# Altium schematic symbol library PAM2306AYPKE.Schlib: 1 symbol
Pins are listed as number, name and electrical type; pins without a type are passive.

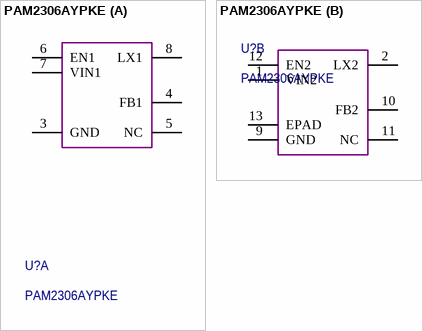
[diagram p0: symbol PAM2306AYPKE]

## PAM2306AYPKE
designator U?
part A pins: 3 GND, 4 FB1, 5 NC, 6 EN1, 7 VIN1, 8 LX1
part B pins: 1 VIN2, 2 LX2, 9 GND, 10 FB2, 11 NC, 12 EN2, 13 EPAD